# Altium schematic symbol library TM4C123GH6PMIR.SchLib: 1 symbol
Pins are listed as number, name and electrical type; pins without a type are passive.

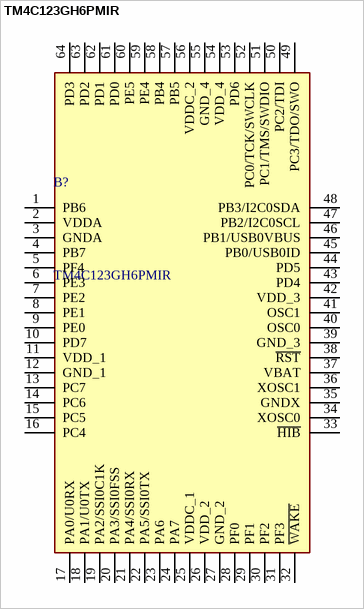
[diagram p0: symbol TM4C123GH6PMIR]

## TM4C123GH6PMIR
designator B?
High performance 32-bit ARM&#174; Cortex&#174;-M4F based MCU; Manufacturer_Name: Texas Instruments; Geometry.Height: 1.6mm; Mouser Part Number: 595-TM4C123GH6PMIR; Mouser Price/Stock: https://www.mouser.co.uk/ProductDetail/Texas-Instruments/TM4C123GH6PMIR?qs=9Y9qB%2FCsC3k3Wi%252BBS4c4WA%3D%3D; Manufacturer_Part_Number: TM4C123GH6PMIR; Datasheet Link: http://www.ti.com/general/docs/suppproductinfo.tsp?distId=10&gotoUrl=http%3A%2F%2Fwww.ti.com%2Flit%2Fgpn%2Ftm4c123gh6pm
footprint QFP50P1200X1200X160-64N
pins: 1 PB6, 2 VDDA, 3 GNDA, 4 PB7, 5 PF4, 6 PE3, 7 PE2, 8 PE1, 9 PE0, 10 PD7, 11 VDD_1, 12 GND_1, 13 PC7, 14 PC6, 15 PC5, 16 PC4, 17 PA0/U0RX, 18 PA1/U0TX, 19 PA2/SSI0C1K, 20 PA3/SSI0FSS, 21 PA4/SSI0RX, 22 PA5/SSI0TX, 23 PA6, 24 PA7, 25 VDDC_1, 26 VDD_2, 27 GND_2, 28 PF0, 29 PF1, 30 PF2, 31 PF3, 32 ~{WAKE}, 33 ~{HIB}, 34 XOSC0, 35 GNDX, 36 XOSC1, 37 VBAT, 38 ~{RST}, 39 GND_3, 40 OSC0, 41 OSC1, 42 VDD_3, 43 PD4, 44 PD5, 45 PB0/USB0ID, 46 PB1/USB0VBUS, 47 PB2/I2C0SCL, 48 PB3/I2C0SDA, 49 PC3/TDO/SWO, 50 PC2/TDI, 51 PC1/TMS/SWDIO, 52 PC0/TCK/SWCLK, 53 PD6, 54 VDD_4, 55 GND_4, 56 VDDC_2, 57 PB5, 58 PB4, 59 PE4, 60 PE5, 61 PD0, 62 PD1, 63 PD2, 64 PD3